# EAGLE library part TS5A3159DBVR (library LinnesLab-DigitalIC)
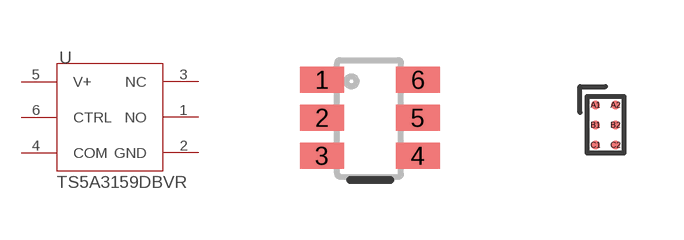
[diagram p15: symbol with the pads of DBV0006A_N; footprints DBV0006A_N, 6-DSBGA]

Designator prefix U

## TS5A3159DBVR (ALTERNATEPARTNUMBER: TS5A3159DBVT; APPLICATION_BUILDNUMBER: *; COMPTYPE: IC; MANUFACTURER: Texas Instruments; MOUNTTYPE: SMT; PACKAGEREFERENCE: DBV0006A; PARTNUMBER: TS5A3159DBVR; PIN_COUNT: 6; REFDES: RefDes; ROHS: Y; TYPE: TYPE; VALUE: Value)  [DBV0006A_N]
1  NO
2  GND  pwr
3  NC
4  COM
5  V+  pwr
6  CTRL  in

## TS5A3159DBVR.DSBGA  [6-DSBGA]
A1  NO
A2  CTRL  in
B1  GND  pwr
B2  V+  pwr
C1  NC
C2  COM

## Footprint DBV0006A_N (pad centres in mm)
smd 1.1 x 0.65: 1 -1.2,0.95; 2 -1.2,0; 3 -1.2,-0.95; 4 1.2,-0.95; 5 1.2,0; 6 1.2,0.95

## Footprint 6-DSBGA (pad centres in mm)
smd 0.225 x 0.223: A1 -0.25,0.5; A2 0.25,0.5; B1 -0.25,0; B2 0.25,0; C1 -0.25,-0.5; C2 0.25,-0.5